# Altium footprint library PI6C557-05BLE.PcbLib: 3 footprints
Each footprint in its own frame and in the unit in brackets; x right, y up, seen from the top. Pads: shape width x height; smd on the part's side, far side on the other; paste and mask are expansions set on the pad; w line width, h text height; cw(c..) or ccw(c..) is an arc to the next point about the centre after c.
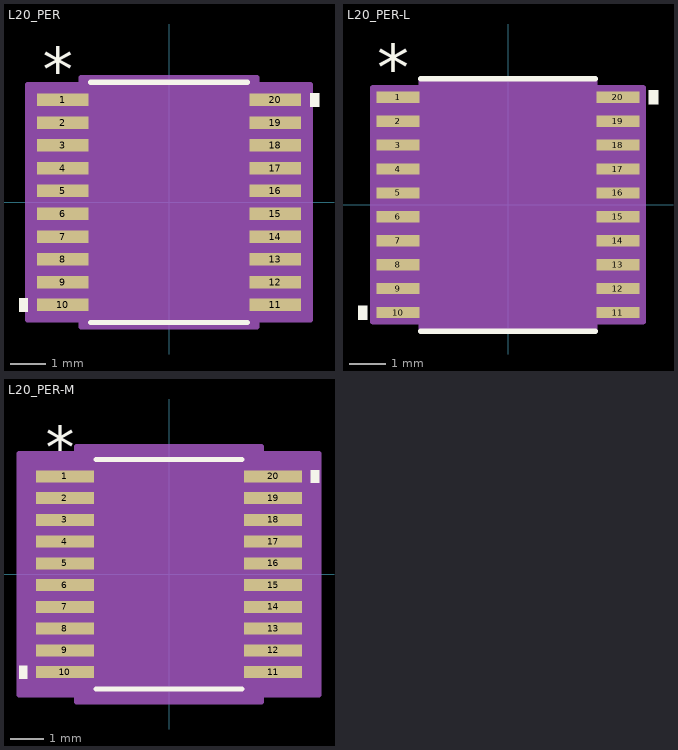
[diagram p0: the footprints below, top view; thin cyan lines are the x and y axes]

## L20_PER [mil]
pads (20):
  rect 58x14 smd paste+0 mask+0: 1(-119.5,115.16) 2(-119.5,89.57) 3(-119.5,63.98) 4(-119.5,38.39) 5(-119.5,12.8) 6(-119.5,-12.8) 7(-119.5,-38.39) 8(-119.5,-63.98) 9(-119.5,-89.57) 10(-119.5,-115.16) 11(119.5,-115.16) 12(119.5,-89.57) 13(119.5,-63.98) 14(119.5,-38.39) 15(119.5,-12.8) 16(119.5,12.8) 17(119.5,38.39) 18(119.5,63.98) 19(119.5,89.57) 20(119.5,115.16)
Top Overlay:
  region: -158.5,-107.66 -168.5,-107.66 -168.5,-122.66 -158.5,-122.66
  region: 158.5,122.66 168.5,122.66 168.5,107.66 158.5,107.66
  lines w6: -87.92,-135 87.92,-135 ; -87.92,135 87.92,135
  text "*" at -142,124.16 h50
Mechanical 13:
  lines w0: -12,130 ccw(c0,130) 12,130
  lines w1: -134.5,-121.16 -134.5,-109.16 -88.5,-109.16 -88.5,-121.16 -134.5,-121.16 ; -134.5,-95.57 -134.5,-83.57 -88.5,-83.57 -88.5,-95.57 -134.5,-95.57 ; -134.5,-69.98 -134.5,-57.98 -88.5,-57.98 -88.5,-69.98 -134.5,-69.98 ; -134.5,-44.39 -134.5,-32.39 -88.5,-32.39 -88.5,-44.39 -134.5,-44.39 ; -134.5,-18.8 -134.5,-6.8 -88.5,-6.8 -88.5,-18.8 -134.5,-18.8 ; -134.5,6.8 -134.5,18.8 -88.5,18.8 -88.5,6.8 -134.5,6.8 ; -134.5,32.39 -134.5,44.39 -88.5,44.39 -88.5,32.39 -134.5,32.39 ; -134.5,57.98 -134.5,69.98 -88.5,69.98 -88.5,57.98 -134.5,57.98 ; -134.5,83.57 -134.5,95.57 -88.5,95.57 -88.5,83.57 -134.5,83.57 ; -134.5,109.16 -134.5,121.16 -88.5,121.16 -88.5,109.16 -134.5,109.16 ; -88.5,-130 88.5,-130 88.5,130 -88.5,130 -88.5,-130 ; 88.5,-121.16 88.5,-109.16 134.5,-109.16 134.5,-121.16 88.5,-121.16 ; 88.5,-95.57 88.5,-83.57 134.5,-83.57 134.5,-95.57 88.5,-95.57 ; 88.5,-69.98 88.5,-57.98 134.5,-57.98 134.5,-69.98 88.5,-69.98 ; 88.5,-44.39 88.5,-32.39 134.5,-32.39 134.5,-44.39 88.5,-44.39 ; 88.5,-18.8 88.5,-6.8 134.5,-6.8 134.5,-18.8 88.5,-18.8 ; 88.5,6.8 88.5,18.8 134.5,18.8 134.5,6.8 88.5,6.8 ; 88.5,32.39 88.5,44.39 134.5,44.39 134.5,32.39 88.5,32.39 ; 88.5,57.98 88.5,69.98 134.5,69.98 134.5,57.98 88.5,57.98 ; 88.5,83.57 88.5,95.57 134.5,95.57 134.5,83.57 88.5,83.57 ; 88.5,109.16 88.5,121.16 134.5,121.16 134.5,109.16 88.5,109.16
  text "*" at -86,77 h50
Mechanical 15:
  region: -98.5,-132.16 -158.5,-132.16 -158.5,132.16 -98.5,132.16 -98.5,140 98.5,140 98.5,132.16 158.5,132.16 158.5,-132.16 98.5,-132.16 98.5,-140 -98.5,-140
  lines w6: -158.5,-132.16 -158.5,132.16 -98.5,132.16 -98.5,140 98.5,140 98.5,132.16 158.5,132.16 158.5,-132.16 98.5,-132.16 98.5,-140 -98.5,-140 -98.5,-132.16 -158.5,-132.16
3D body "L20_PER.step": height 47.09, standoff 0, extent -134.49,-130 134.49,130

## L20_PER-L [mil]
pads (20):
  rect 46x12 smd paste+0 mask+0: 1(-117.5,115.16) 2(-117.5,89.57) 3(-117.5,63.98) 4(-117.5,38.39) 5(-117.5,12.8) 6(-117.5,-12.8) 7(-117.5,-38.39) 8(-117.5,-63.98) 9(-117.5,-89.57) 10(-117.5,-115.16) 11(117.5,-115.16) 12(117.5,-89.57) 13(117.5,-63.98) 14(117.5,-38.39) 15(117.5,-12.8) 16(117.5,12.8) 17(117.5,38.39) 18(117.5,63.98) 19(117.5,89.57) 20(117.5,115.16)
Top Overlay:
  region: -150.5,-107.66 -160.5,-107.66 -160.5,-122.66 -150.5,-122.66
  region: 150.5,122.66 160.5,122.66 160.5,107.66 150.5,107.66
  lines w6: -93.5,-135 93.5,-135 ; -93.5,135 93.5,135
  text "*" at -140,122.16 h50
Mechanical 13:
  lines w0: -12,130 ccw(c0,130) 12,130
  lines w1: -134.5,-121.16 -134.5,-109.16 -88.5,-109.16 -88.5,-121.16 -134.5,-121.16 ; -134.5,-95.57 -134.5,-83.57 -88.5,-83.57 -88.5,-95.57 -134.5,-95.57 ; -134.5,-69.98 -134.5,-57.98 -88.5,-57.98 -88.5,-69.98 -134.5,-69.98 ; -134.5,-44.39 -134.5,-32.39 -88.5,-32.39 -88.5,-44.39 -134.5,-44.39 ; -134.5,-18.8 -134.5,-6.8 -88.5,-6.8 -88.5,-18.8 -134.5,-18.8 ; -134.5,6.8 -134.5,18.8 -88.5,18.8 -88.5,6.8 -134.5,6.8 ; -134.5,32.39 -134.5,44.39 -88.5,44.39 -88.5,32.39 -134.5,32.39 ; -134.5,57.98 -134.5,69.98 -88.5,69.98 -88.5,57.98 -134.5,57.98 ; -134.5,83.57 -134.5,95.57 -88.5,95.57 -88.5,83.57 -134.5,83.57 ; -134.5,109.16 -134.5,121.16 -88.5,121.16 -88.5,109.16 -134.5,109.16 ; -88.5,-130 88.5,-130 88.5,130 -88.5,130 -88.5,-130 ; 88.5,-121.16 88.5,-109.16 134.5,-109.16 134.5,-121.16 88.5,-121.16 ; 88.5,-95.57 88.5,-83.57 134.5,-83.57 134.5,-95.57 88.5,-95.57 ; 88.5,-69.98 88.5,-57.98 134.5,-57.98 134.5,-69.98 88.5,-69.98 ; 88.5,-44.39 88.5,-32.39 134.5,-32.39 134.5,-44.39 88.5,-44.39 ; 88.5,-18.8 88.5,-6.8 134.5,-6.8 134.5,-18.8 88.5,-18.8 ; 88.5,6.8 88.5,18.8 134.5,18.8 134.5,6.8 88.5,6.8 ; 88.5,32.39 88.5,44.39 134.5,44.39 134.5,32.39 88.5,32.39 ; 88.5,57.98 88.5,69.98 134.5,69.98 134.5,57.98 88.5,57.98 ; 88.5,83.57 88.5,95.57 134.5,95.57 134.5,83.57 88.5,83.57 ; 88.5,109.16 88.5,121.16 134.5,121.16 134.5,109.16 88.5,109.16
  text "*" at -86,77 h50
Mechanical 15:
  region: -92.5,-125.16 -144.5,-125.16 -144.5,125.16 -92.5,125.16 -92.5,134 92.5,134 92.5,125.16 144.5,125.16 144.5,-125.16 92.5,-125.16 92.5,-134 -92.5,-134
  lines w6: -144.5,-125.16 -144.5,125.16 -92.5,125.16 -92.5,134 92.5,134 92.5,125.16 144.5,125.16 144.5,-125.16 92.5,-125.16 92.5,-134 -92.5,-134 -92.5,-125.16 -144.5,-125.16
3D body "L20_PER.step": height 47.09, standoff 0, extent -134.49,-130 134.49,130

## L20_PER-M [mil]
pads (20):
  rect 68x14 smd paste+0 mask+0: 1(-122.5,115.16) 2(-122.5,89.57) 3(-122.5,63.98) 4(-122.5,38.39) 5(-122.5,12.8) 6(-122.5,-12.8) 7(-122.5,-38.39) 8(-122.5,-63.98) 9(-122.5,-89.57) 10(-122.5,-115.16) 11(122.5,-115.16) 12(122.5,-89.57) 13(122.5,-63.98) 14(122.5,-38.39) 15(122.5,-12.8) 16(122.5,12.8) 17(122.5,38.39) 18(122.5,63.98) 19(122.5,89.57) 20(122.5,115.16)
Top Overlay:
  region: -166.5,-107.66 -176.5,-107.66 -176.5,-122.66 -166.5,-122.66
  region: 166.5,122.66 176.5,122.66 176.5,107.66 166.5,107.66
  lines w6: -85.92,-135 85.92,-135 ; -85.92,135 85.92,135
  text "*" at -145,124.16 h50
Mechanical 13:
  lines w0: -12,130 ccw(c0,130) 12,130
  lines w1: -134.5,-121.16 -134.5,-109.16 -88.5,-109.16 -88.5,-121.16 -134.5,-121.16 ; -134.5,-95.57 -134.5,-83.57 -88.5,-83.57 -88.5,-95.57 -134.5,-95.57 ; -134.5,-69.98 -134.5,-57.98 -88.5,-57.98 -88.5,-69.98 -134.5,-69.98 ; -134.5,-44.39 -134.5,-32.39 -88.5,-32.39 -88.5,-44.39 -134.5,-44.39 ; -134.5,-18.8 -134.5,-6.8 -88.5,-6.8 -88.5,-18.8 -134.5,-18.8 ; -134.5,6.8 -134.5,18.8 -88.5,18.8 -88.5,6.8 -134.5,6.8 ; -134.5,32.39 -134.5,44.39 -88.5,44.39 -88.5,32.39 -134.5,32.39 ; -134.5,57.98 -134.5,69.98 -88.5,69.98 -88.5,57.98 -134.5,57.98 ; -134.5,83.57 -134.5,95.57 -88.5,95.57 -88.5,83.57 -134.5,83.57 ; -134.5,109.16 -134.5,121.16 -88.5,121.16 -88.5,109.16 -134.5,109.16 ; -88.5,-130 88.5,-130 88.5,130 -88.5,130 -88.5,-130 ; 88.5,-121.16 88.5,-109.16 134.5,-109.16 134.5,-121.16 88.5,-121.16 ; 88.5,-95.57 88.5,-83.57 134.5,-83.57 134.5,-95.57 88.5,-95.57 ; 88.5,-69.98 88.5,-57.98 134.5,-57.98 134.5,-69.98 88.5,-69.98 ; 88.5,-44.39 88.5,-32.39 134.5,-32.39 134.5,-44.39 88.5,-44.39 ; 88.5,-18.8 88.5,-6.8 134.5,-6.8 134.5,-18.8 88.5,-18.8 ; 88.5,6.8 88.5,18.8 134.5,18.8 134.5,6.8 88.5,6.8 ; 88.5,32.39 88.5,44.39 134.5,44.39 134.5,32.39 88.5,32.39 ; 88.5,57.98 88.5,69.98 134.5,69.98 134.5,57.98 88.5,57.98 ; 88.5,83.57 88.5,95.57 134.5,95.57 134.5,83.57 88.5,83.57 ; 88.5,109.16 88.5,121.16 134.5,121.16 134.5,109.16 88.5,109.16
  text "*" at -86,77 h50
Mechanical 15:
  region: -108.5,-142.16 -176.5,-142.16 -176.5,142.16 -108.5,142.16 -108.5,150 108.5,150 108.5,142.16 176.5,142.16 176.5,-142.16 108.5,-142.16 108.5,-150 -108.5,-150
  lines w6: -176.5,-142.16 -176.5,142.16 -108.5,142.16 -108.5,150 108.5,150 108.5,142.16 176.5,142.16 176.5,-142.16 108.5,-142.16 108.5,-150 -108.5,-150 -108.5,-142.16 -176.5,-142.16
3D body "L20_PER.step": height 47.09, standoff 0, extent -134.49,-130 134.49,130